# Altium schematic symbol library LEDs.SchLib: 1 symbol
Pins are listed as number, name and electrical type; pins without a type are passive.

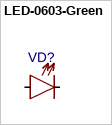
[diagram p0: symbol LED-0603-Green]

## LED-0603-Green
designator VD?  (value not drawn)
footprint LED1608X05N (LED, 2-Leads, Body 1,60x0,80mm, IPC Medium Density)
pins: 1, 2